# Altium footprint library to-case.PcbLib: 113 footprints (part 8 of 8)
Each footprint in its own frame and in the unit in brackets; x right, y up, seen from the top. Pads: shape width x height; smd on the part's side, far side on the other; paste and mask are expansions set on the pad; w line width, h text height; cw(c..) or ccw(c..) is an arc to the next point about the centre after c.
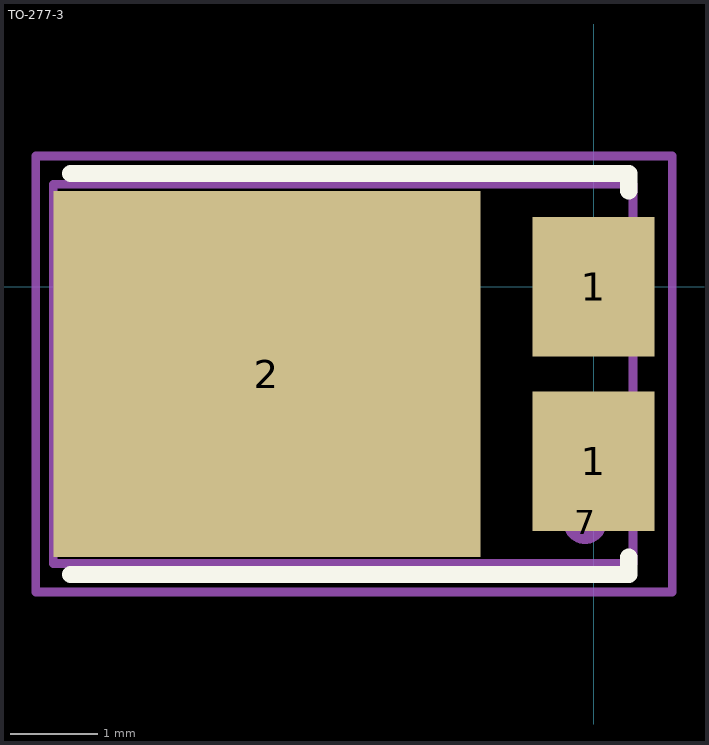
[diagram p7: the footprint, top view; thin cyan lines are the x and y axes]

## TO-277-3 [mm]
pads (4):
  rect 1.4x1.6 smd: 1(0,-2) 1(0,0)
  rect 4.9x4.2 smd: 2(-3.75,-1)
  round 0.5 on Mech1: 7(-0.1,-2.7)
Top Overlay:
  lines w0.2: -6,-3.3 0.4,-3.3 0.4,-3.1 ; -6,1.3 0.4,1.3 0.4,1.1
Mechanical 1:
  lines w0.1: -6.2,1.175 -6.2,-3.175 0.45,-3.175 0.45,1.175 -6.2,1.175 ; -6.2,1.175 -6.2,1.175
Mechanical 15:
  lines w0.1: -6.4,-3.5 -6.4,1.5 0.9,1.5 0.9,-3.5 -6.4,-3.5
3D body "TO-277_3L.stp": height 1.25, standoff 0, extent -6.2,-3.175 0.45,1.175